# Altium schematic symbol library Connector.SchLib: 11 symbols
Pins are listed as number, name and electrical type; pins without a type are passive.

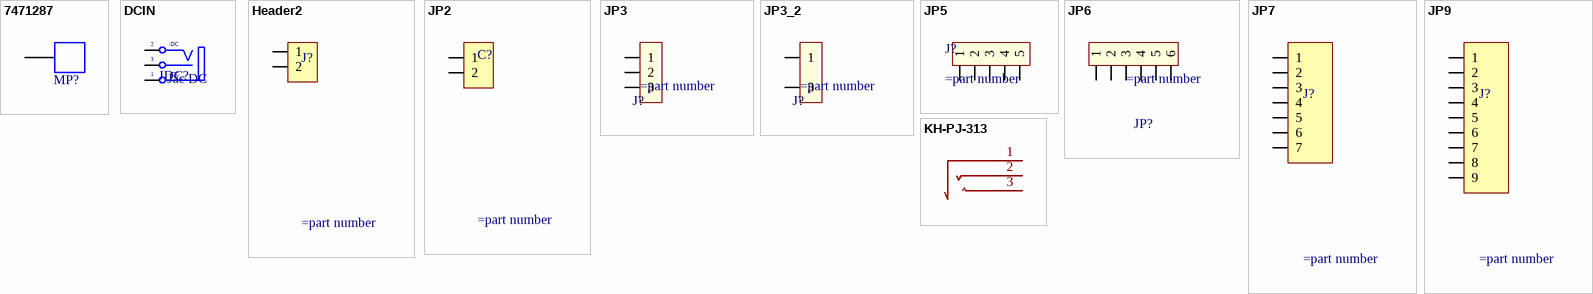
[diagram p0: symbols 7471287 to KH-PJ-313]

## 7471287
designator MP?
ComponentLink1Description: Website Link; ComponentLink1URL: https://www.we-online.com/redexpert/article/7471287?ad; ComponentLink2Description: Datasheet Link; ComponentLink2URL: https://www.we-online.com/redexpert/spec/7471287?ad
pins: 1

## DCIN
designator JDC?, comment Jac DC
pins: 1 T "Tip", 2 TN "Tip Normal (Break Contact)", 3 S (power) "Sleeve (Ground)"
text: -DC; +DC

## Header2
designator J?
ComponentLink1 Description: Manufacturer; ComponentLink2 Description: Datasheet; ComponentLink1URL: http://www.we-online.com; ComponentLink2URL: http://katalog.we-online.de/em/datasheet/6130xx143121.pdf
pins: 1, 2

## JP2
designator C?
ComponentLink1 Description: Manufacturer; ComponentLink2 Description: Datasheet; ComponentLink1URL: http://www.we-online.com; ComponentLink2URL: http://katalog.we-online.de/em/datasheet/6130xx143121.pdf
pins: 1, 2

## JP3
designator J?
pins: 1, 2, 3

## JP3_2
designator J?
pins: 1, 3

## JP5
designator J?
pins: 1, 2, 3, 4, 5

## JP6
designator JP?
pins: 1, 2, 3, 4, 5, 6

## JP7
designator J?
ComponentLink1 Description: Manufacturer; ComponentLink2 Description: Datasheet; ComponentLink1URL: http://www.we-online.com; ComponentLink2URL: http://katalog.we-online.de/em/datasheet/6130xx143121.pdf
pins: 1, 2, 3, 4, 5, 6, 7

## JP9
designator J?
ComponentLink1 Description: Manufacturer; ComponentLink2 Description: Datasheet; ComponentLink1URL: http://www.we-online.com; ComponentLink2URL: http://katalog.we-online.de/em/datasheet/6130xx143121.pdf
pins: 1, 2, 3, 4, 5, 6, 7, 8, 9

## KH-PJ-313
designator CN?
pins: 1, 2, 3